# Altium footprint library TCRT5000.PcbLib: 1 footprints
Each footprint in its own frame and in the unit in brackets; x right, y up, seen from the top. Pads: shape width x height; smd on the part's side, far side on the other; paste and mask are expansions set on the pad; w line width, h text height; cw(c..) or ccw(c..) is an arc to the next point about the centre after c.
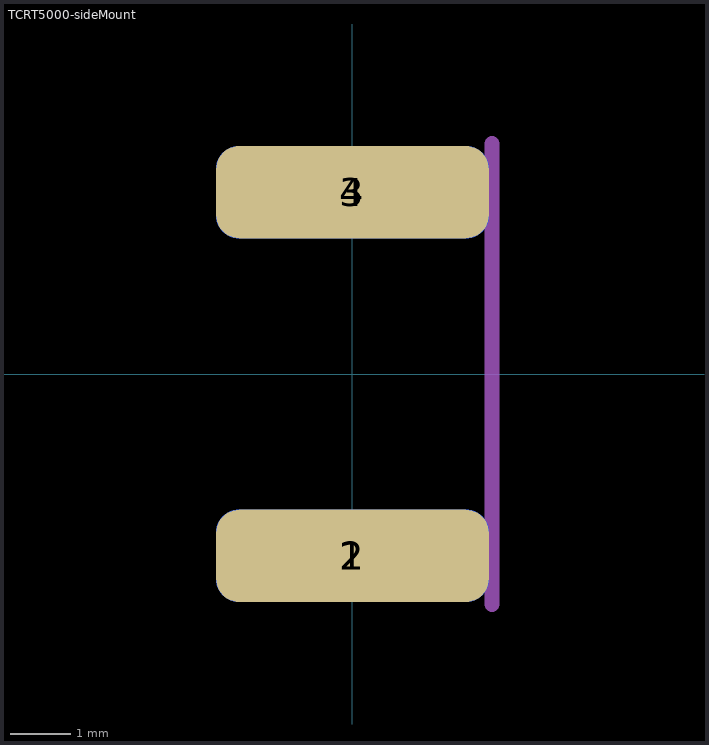
[diagram p0: the footprint, top view; thin cyan lines are the x and y axes]

## TCRT5000-sideMount [mm]
pads (4):
  rrect50% 4.5x1.524 smd: 1(0,-3) 3(0,3)
  rrect50% 4.5x1.524 smd far side: 2(0,-3) 4(0,3)
Mechanical 1:
  lines w0.25: 2.3,-3.8 2.3,3.8
3D body "TCRT-5000.stp": height 3.3, standoff -3.5, extent -1.75,-5.2 8.75,5